# Altium schematic symbol library SCH - OPAMP - THS4561IRUNR.Schlib: 1 symbol
Pins are listed as number, name and electrical type; pins without a type are passive.

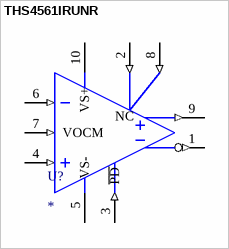
[diagram p0: symbol THS4561IRUNR]

## THS4561IRUNR
designator U?
Integrated Circuit
pins: 1 VOUT- (out) "Inverting amplifier output", 2 NC_1 (in) "Internally not connected", 3 ~{PD} (in) "Power down. P\D\ = logic low puts device into low-power mode. P\D\ = logic high or open for normal operation.", 4 VIN+ (in) "Inverting amplifier input", 5 VS- (power) "Amplifier negative power-supply input. Note that VS- is tied together on multi-channel devices.", 6 VIN- (in) "Noninverting amplifier input", 7 VOCM (in) "Common-mode voltage input", 8 NC_2 (in) "Internally not connected", 9 VOUT+ (out) "Noninverting amplifier output", 10 VS+ (power) "Amplifier positive power-supply input"
text: NC